# EAGLE library part PINHD-1X6 (library kyle)
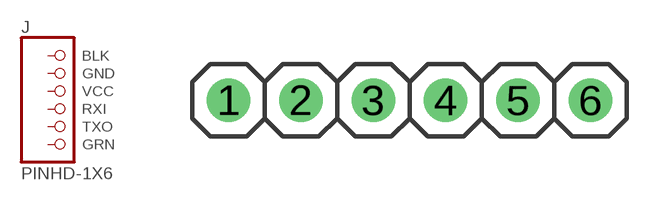
[diagram p3: symbol with the pads of 1X6; footprint 1X6]

Designator prefix J

## PINHD-1X6  [1X6]
1  BLK
2  GND
3  VCC
4  RXI
5  TXO
6  GRN

## Footprint 1X6 (pad centres in mm)
drill 1.016: 1 -6.35,0; 2 -3.81,0; 3 -1.27,0; 4 1.27,0; 5 3.81,0; 6 6.35,0